# Altium schematic symbol library PIC18F24Q10.SchLib: 1 symbol
Pins are listed as number, name and electrical type; pins without a type are passive.

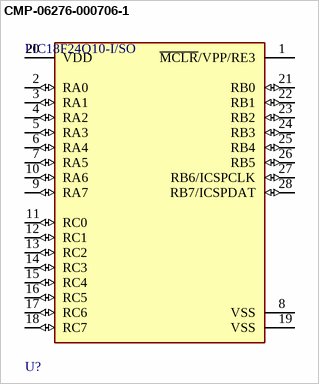
[diagram p0: symbol CMP-06276-000706-1]

## CMP-06276-000706-1
designator U?, comment PIC18F24Q10-I/SO
IC MCU 8BIT 16KB FLASH 28SOIC; Oscillator Type: Internal; Core Architecture: PIC; Number of I/Os: 25; Interface: I2C; Peripherals: Brown-out Detect/Reset; Frequency: 64MHz; Min Operating Temperature: -40°C; Case/Package: SOIC; Packaging: Rail/Tube; Memory Size: 16KB; Memory Type: FLASH; Series: PIC® XLP™ 18Q; Max Operating Temperature: 85°C
footprint FP-C04-052-IPC_A
footprint FP-C04-052-MFG
footprint FP-C04-052-IPC_B
footprint FP-C04-052-IPC_C
pins: 1 ~{MCLR}/VPP/RE3, 2 RA0 (io), 3 RA1 (io), 4 RA2 (io), 5 RA3 (io), 6 RA4 (io), 7 RA5 (io), 8 VSS (power), 9 RA7 (io), 10 RA6 (io), 11 RC0 (io), 12 RC1 (io), 13 RC2 (io), 14 RC3 (io), 15 RC4 (io), 16 RC5 (io), 17 RC6 (io), 18 RC7 (io), 19 VSS (power), 20 VDD (power), 21 RB0 (io), 22 RB1 (io), 23 RB2 (io), 24 RB3 (io), 25 RB4 (io), 26 RB5 (io), 27 RB6/ICSPCLK (io), 28 RB7/ICSPDAT (io)